# Altium schematic symbol library CON40.SchLib: 1 symbol
Pins are listed as number, name and electrical type; pins without a type are passive.

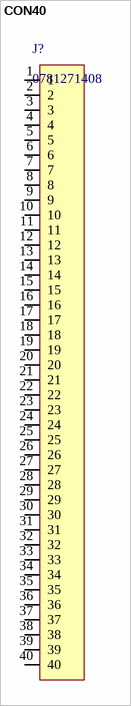
[diagram p0: symbol CON40]

## CON40
designator J?, comment 0781271408
PDF: http://www.molex.com/pdm_docs/sd/781271408_sd.pdf; BUY_LINK: http://www.digikey.com/product-detail/en/0781271408/WM10129CT-ND/4357207; PRICE: 1.42380; ID: 0781271408
footprint 0781271408
pins: 1, 2, 3, 4, 5, 6, 7, 8, 9, 10, 11, 12, 13, 14, 15, 16, 17, 18, 19, 20, 21, 22, 23, 24, 25, 26, 27, 28, 29, 30, 31, 32, 33, 34, 35, 36, 37, 38, 39, 40